# EAGLE library part TC1775 (library infineon-tricore)
TC1775 (AUDO1) 32-bit microcontroller for high demanding automotive and industrial applications (e.g. engine management, starter generator, 3-phase motor control or robotics) Source: http://www.infineon.com ..
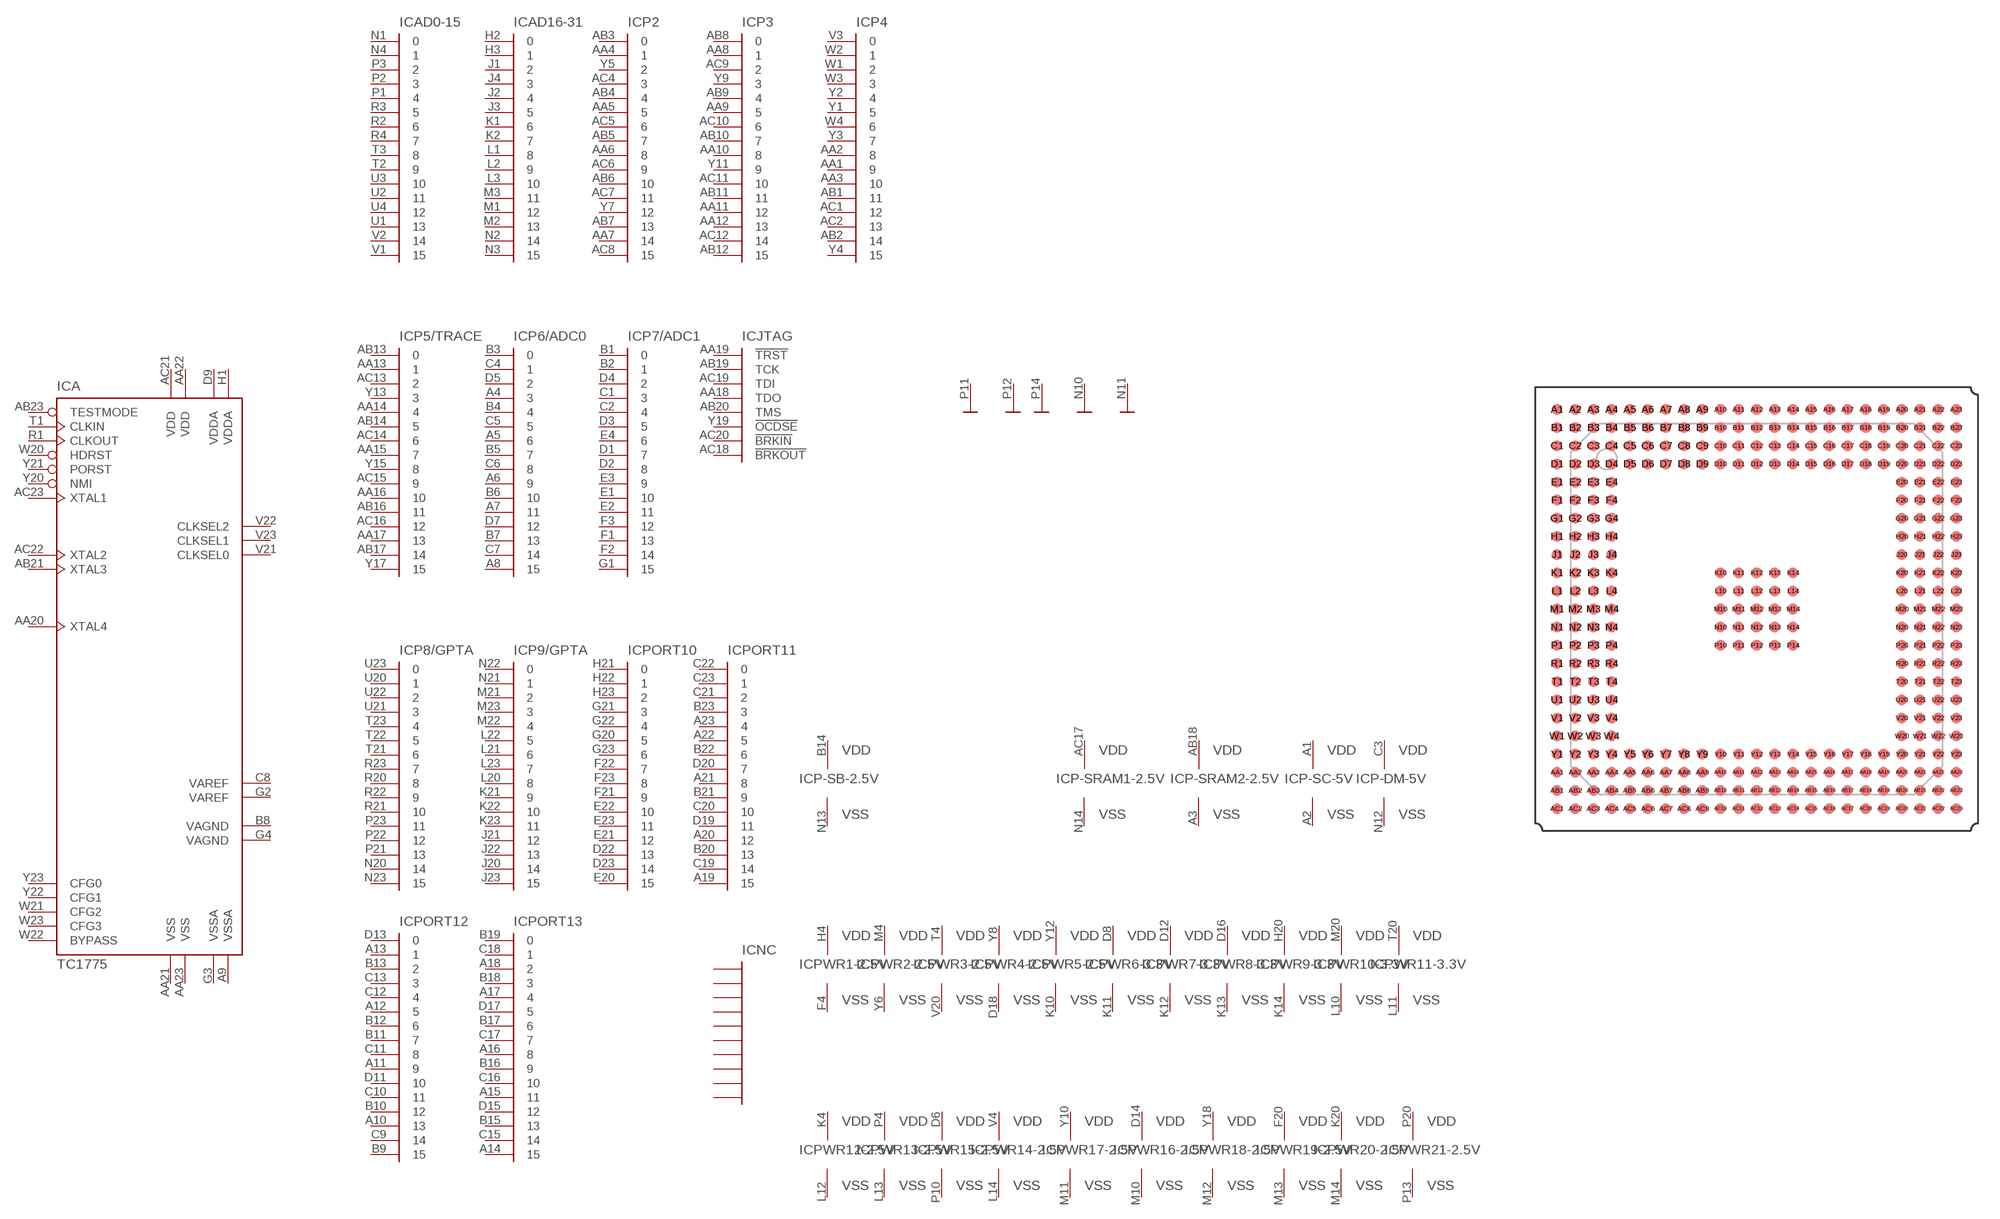
[diagram p1: symbol with the pads of P-BGA329; footprint P-BGA329]

Designator prefix IC; gates PORT12=PORT16 PORT13=PORT16 P8/GPTA=PORT16 P9/GPTA=PORT16 PORT10=PORT16 PORT11=PORT16 P5/TRACE=PORT16 P6/ADC0=PORT16 P7/ADC1=PORT16 AD0-15=PORT16 AD16-31=PORT16 P2=PORT16 P3=PORT16 P4=PORT16 NC=NC10 PWR1-2.5V=VSS_VDD PWR2-2.5V=VSS_VDD PWR3-2.5V=VSS_VDD PWR4-2.5V=VSS_VDD PWR5-2.5V=VSS_VDD PWR6-3.3V=VSS_VDD PWR7-3.3V=VSS_VDD PWR8-3.3V=VSS_VDD PWR9-3.3V=VSS_VDD PWR10-3.3V=VSS_VDD PWR11-3.3V=VSS_VDD PWR12-2.5V=VSS_VDD PWR13-2.5V=VSS_VDD PWR14-2.5V=VSS_VDD PWR15-2.5V=VSS_VDD P-SB-2.5V=VSS_VDD P-SRAM1-2.5V=VSS_VDD P-SRAM2-2.5V=VSS_VDD PWR16-2.5V=VSS_VDD PWR17-2.5V=VSS_VDD PWR18-2.5V=VSS_VDD PWR19-2.5V=VSS_VDD PWR20-2.5V=VSS_VDD PWR21-2.5V=VSS_VDD P-SC-5V=VSS_VDD P-DM-5V=VSS_VDD JTAG=JTAG-OCSD A=TC1775 PWR22=VSS PWR23=VSS PWR24=VSS PWR25=VSS PWR26=VSS

## TC1775 (OC_FARNELL: unknown; OC_NEWARK: unknown)  [P-BGA329]
A1  P-SC-5V:VDD  pwr
A2  P-SC-5V:VSS  pwr
A3  P-SRAM2-2.5V:VSS  pwr
A4  P6/ADC0:3  in
A5  P6/ADC0:6  in
A6  P6/ADC0:9  in
A7  P6/ADC0:11  in
A8  P6/ADC0:15  in
A9  A:VSSA  pwr
A10  PORT12:13  in
A11  PORT12:9  in
A12  PORT12:5  in
A13  PORT12:1  in
A14  PORT13:15  in
A15  PORT13:11  in
A16  PORT13:8  in
A17  PORT13:4  in
A18  PORT13:2  in
A19  PORT11:15  in
A20  PORT11:12  in
A21  PORT11:8  in
A22  PORT11:5  in
A23  PORT11:4  in
AA1  P4:9  in
AA2  P4:8  in
AA3  P4:10  in
AA4  P2:1  in
AA5  P2:5  in
AA6  P2:8  in
AA7  P2:14  in
AA8  P3:1  in
AA9  P3:5  in
AA10  P3:8  in
AA11  P3:12  in
AA12  P3:13  in
AA13  P5/TRACE:1  in
AA14  P5/TRACE:4  in
AA15  P5/TRACE:7  in
AA16  P5/TRACE:10  in
AA17  P5/TRACE:13  in
AA18  JTAG:TDO  out
AA19  JTAG:!TRST  in
AA20  A:XTAL4
AA21  A:VSS  pwr
AA22  A:VDD  pwr
AA23  A:VSS  pwr
AB1  P4:11  in
AB2  P4:14  in
AB3  P2:0  in
AB4  P2:4  in
AB5  P2:7  in
AB6  P2:10  in
AB7  P2:13  in
AB8  P3:0  in
AB9  P3:4  in
AB10  P3:7  in
AB11  P3:11  in
AB12  P3:15  in
AB13  P5/TRACE:0  in
AB14  P5/TRACE:5  in
AB15  NC:NC  nc
AB16  P5/TRACE:11  in
AB17  P5/TRACE:14  in
AB18  P-SRAM2-2.5V:VDD  pwr
AB19  JTAG:TCK  in
AB20  JTAG:TMS  in
AB21  A:XTAL3
AB22  NC:NC  nc
AB23  A:TESTMODE
AC1  P4:12  in
AC2  P4:13  in
AC3  NC:NC  nc
AC4  P2:3  in
AC5  P2:6  in
AC6  P2:9  in
AC7  P2:11  in
AC8  P2:15  in
AC9  P3:2  in
AC10  P3:6  in
AC11  P3:10  in
AC12  P3:14  in
AC13  P5/TRACE:2  in
AC14  P5/TRACE:6  in
AC15  P5/TRACE:9  in
AC16  P5/TRACE:12  in
AC17  P-SRAM1-2.5V:VDD  pwr
AC18  JTAG:!BRKOUT  out
AC19  JTAG:TDI  in
AC20  JTAG:!BRKIN  in
AC21  A:VDD  pwr
AC22  A:XTAL2
AC23  A:XTAL1
B1  P7/ADC1:0  in
B2  P7/ADC1:1  in
B3  P6/ADC0:0  in
B4  P6/ADC0:4  in
B5  P6/ADC0:7  in
B6  P6/ADC0:10  in
B7  P6/ADC0:13  in
B8  A:VAGND  pwr
B9  PORT12:15  in
B10  PORT12:12  in
B11  PORT12:7  in
B12  PORT12:6  in
B13  PORT12:2  in
B14  P-SB-2.5V:VDD  pwr
B15  PORT13:13  in
B16  PORT13:9  in
B17  PORT13:6  in
B18  PORT13:3  in
B19  PORT13:0  in
B20  PORT11:13  in
B21  PORT11:9  in
B22  PORT11:6  in
B23  PORT11:3  in
C1  P7/ADC1:3  in
C2  P7/ADC1:4  in
C3  P-DM-5V:VDD  pwr
C4  P6/ADC0:1  in
C5  P6/ADC0:5  in
C6  P6/ADC0:8  in
C7  P6/ADC0:14  in
C8  A:VAREF  pwr
C9  PORT12:14  in
C10  PORT12:11  in
C11  PORT12:8  in
C12  PORT12:4  in
C13  PORT12:3  in
C14  NC:NC  nc
C15  PORT13:14  in
C16  PORT13:10  in
C17  PORT13:7  in
C18  PORT13:1  in
C19  PORT11:14  in
C20  PORT11:10  in
C21  PORT11:2  in
C22  PORT11:0  in
C23  PORT11:1  in
D1  P7/ADC1:7  in
D2  P7/ADC1:8  in
D3  P7/ADC1:5  in
D4  P7/ADC1:2  in
D5  P6/ADC0:2  in
D6  PWR15-2.5V:VDD  pwr
D7  P6/ADC0:12  in
D8  PWR6-3.3V:VDD  pwr
D9  A:VDDA  pwr
D10  NC:NC  nc
D11  PORT12:10  in
D12  PWR7-3.3V:VDD  pwr
D13  PORT12:0  in
D14  PWR16-2.5V:VDD  pwr
D15  PORT13:12  in
D16  PWR8-3.3V:VDD  pwr
D17  PORT13:5  in
D18  PWR4-2.5V:VSS  pwr
D19  PORT11:11  in
D20  PORT11:7  in
D21  NC:NC  nc
D22  PORT10:13  in
D23  PORT10:14  in
E1  P7/ADC1:10  in
E2  P7/ADC1:11  in
E3  P7/ADC1:9  in
E4  P7/ADC1:6  in
E20  PORT10:15  in
E21  PORT10:12  in
E22  PORT10:10  in
E23  PORT10:11  in
F1  P7/ADC1:13  in
F2  P7/ADC1:14  in
F3  P7/ADC1:12  in
F4  PWR1-2.5V:VSS  pwr
F20  PWR19-2.5V:VDD  pwr
F21  PORT10:9  in
F22  PORT10:7  in
F23  PORT10:8  in
G1  P7/ADC1:15  in
G2  A:VAREF  pwr
G3  A:VSSA  pwr
G4  A:VAGND  pwr
G20  PORT10:5  in
G21  PORT10:3  in
G22  PORT10:4  in
G23  PORT10:6  in
H1  A:VDDA  pwr
H2  AD16-31:0  in
H3  AD16-31:1  in
H4  PWR1-2.5V:VDD  pwr
H20  PWR9-3.3V:VDD  pwr
H21  PORT10:0  in
H22  PORT10:1  in
H23  PORT10:2  in
J1  AD16-31:2  in
J2  AD16-31:4  in
J3  AD16-31:5  in
J4  AD16-31:3  in
J20  P9/GPTA:14  in
J21  P9/GPTA:12  in
J22  P9/GPTA:13  in
J23  P9/GPTA:15  in
K1  AD16-31:6  in
K2  AD16-31:7  in
K3  NC:NC  nc
K4  PWR12-2.5V:VDD  pwr
K10  PWR5-2.5V:VSS  pwr
K11  PWR6-3.3V:VSS  pwr
K12  PWR7-3.3V:VSS  pwr
K13  PWR8-3.3V:VSS  pwr
K14  PWR9-3.3V:VSS  pwr
K20  PWR20-2.5V:VDD  pwr
K21  P9/GPTA:9  in
K22  P9/GPTA:10  in
K23  P9/GPTA:11  in
L1  AD16-31:8  in
L2  AD16-31:9  in
L3  AD16-31:10  in
L4  NC:NC  nc
L10  PWR10-3.3V:VSS  pwr
L11  PWR11-3.3V:VSS  pwr
L12  PWR12-2.5V:VSS  pwr
L13  PWR13-2.5V:VSS  pwr
L14  PWR14-2.5V:VSS  pwr
L20  P9/GPTA:8  in
L21  P9/GPTA:6  in
L22  P9/GPTA:5  in
L23  P9/GPTA:7  in
M1  AD16-31:12  in
M2  AD16-31:13  in
M3  AD16-31:11  in
M4  PWR2-2.5V:VDD  pwr
M10  PWR16-2.5V:VSS  pwr
M11  PWR17-2.5V:VSS  pwr
M12  PWR18-2.5V:VSS  pwr
M13  PWR19-2.5V:VSS  pwr
M14  PWR20-2.5V:VSS  pwr
M20  PWR10-3.3V:VDD  pwr
M21  P9/GPTA:2  in
M22  P9/GPTA:4  in
M23  P9/GPTA:3  in
N1  AD0-15:0  in
N2  AD16-31:14  in
N3  AD16-31:15  in
N4  AD0-15:1  in
N10  PWR25:VSS  pwr
N11  PWR26:VSS  pwr
N12  P-DM-5V:VSS  pwr
N13  P-SB-2.5V:VSS  pwr
N14  P-SRAM1-2.5V:VSS  pwr
N20  P8/GPTA:14  in
N21  P9/GPTA:1  in
N22  P9/GPTA:0  in
N23  P8/GPTA:15  in
P1  AD0-15:4  in
P2  AD0-15:3  in
P3  AD0-15:2  in
P4  PWR13-2.5V:VDD  pwr
P10  PWR15-2.5V:VSS  pwr
P11  PWR22:VSS  pwr
P12  PWR23:VSS  pwr
P13  PWR21-2.5V:VSS  pwr
P14  PWR24:VSS  pwr
P20  PWR21-2.5V:VDD  pwr
P21  P8/GPTA:13  in
P22  P8/GPTA:12  in
P23  P8/GPTA:11  in
R1  A:CLKOUT  out
R2  AD0-15:6  in
R3  AD0-15:5  in
R4  AD0-15:7  in
R20  P8/GPTA:8  in
R21  P8/GPTA:10  in
R22  P8/GPTA:9  in
R23  P8/GPTA:7  in
T1  A:CLKIN  in
T2  AD0-15:9  in
T3  AD0-15:8  in
T4  PWR3-2.5V:VDD  pwr
T20  PWR11-3.3V:VDD  pwr
T21  P8/GPTA:6  in
T22  P8/GPTA:5  in
T23  P8/GPTA:4  in
U1  AD0-15:13  in
U2  AD0-15:11  in
U3  AD0-15:10  in
U4  AD0-15:12  in
U20  P8/GPTA:1  in
U21  P8/GPTA:3  in
U22  P8/GPTA:2  in
U23  P8/GPTA:0  in
V1  AD0-15:15  in
V2  AD0-15:14  in
V3  P4:0  in
V4  PWR14-2.5V:VDD  pwr
V20  PWR3-2.5V:VSS  pwr
V21  A:CLKSEL0  in
V22  A:CLKSEL2  in
V23  A:CLKSEL1  in
W1  P4:2  in
W2  P4:1  in
W3  P4:3  in
W4  P4:6  in
W20  A:HDRST
W21  A:CFG2  in
W22  A:BYPASS  in
W23  A:CFG3  in
Y1  P4:5  in
Y2  P4:4  in
Y3  P4:7  in
Y4  P4:15  in
Y5  P2:2  in
Y6  PWR2-2.5V:VSS  pwr
Y7  P2:12  in
Y8  PWR4-2.5V:VDD  pwr
Y9  P3:3  in
Y10  PWR17-2.5V:VDD  pwr
Y11  P3:9  in
Y12  PWR5-2.5V:VDD  pwr
Y13  P5/TRACE:3  in
Y14  NC:NC  nc
Y15  P5/TRACE:8  in
Y16  NC:NC  nc
Y17  P5/TRACE:15  in
Y18  PWR18-2.5V:VDD  pwr
Y19  JTAG:!OCDSE  in
Y20  A:NMI  in
Y21  A:PORST  in
Y22  A:CFG1  in
Y23  A:CFG0  in

## Footprint P-BGA329 (pad centres in mm)
P-BGA-329 Plastic Ball Grid Array Package Source: http://www.infineon.com
smd 0.76 x 0.76: A1 -13.97,13.97; A2 -12.7,13.97; A3 -11.43,13.97; A4 -10.16,13.97; A5 -8.89,13.97; A6 -7.62,13.97; A7 -6.35,13.97; A8 -5.08,13.97; A9 -3.81,13.97; A10 -2.54,13.97; A11 -1.27,13.97; A12 0,13.97; A13 1.27,13.97; A14 2.54,13.97; A15 3.81,13.97; A16 5.08,13.97; A17 6.35,13.97; A18 7.62,13.97; A19 8.89,13.97; A20 10.16,13.97; A21 11.43,13.97; A22 12.7,13.97; A23 13.97,13.97; AA1 -13.97,-11.43; AA2 -12.7,-11.43; AA3 -11.43,-11.43; AA4 -10.16,-11.43; AA5 -8.89,-11.43; AA6 -7.62,-11.43; AA7 -6.35,-11.43; AA8 -5.08,-11.43; AA9 -3.81,-11.43; AA10 -2.54,-11.43; AA11 -1.27,-11.43; AA12 0,-11.43; AA13 1.27,-11.43; AA14 2.54,-11.43; AA15 3.81,-11.43; AA16 5.08,-11.43; AA17 6.35,-11.43; AA18 7.62,-11.43; AA19 8.89,-11.43; AA20 10.16,-11.43; AA21 11.43,-11.43; AA22 12.7,-11.43; AA23 13.97,-11.43; AB1 -13.97,-12.7; AB2 -12.7,-12.7; AB3 -11.43,-12.7; AB4 -10.16,-12.7; AB5 -8.89,-12.7; AB6 -7.62,-12.7; AB7 -6.35,-12.7; AB8 -5.08,-12.7; AB9 -3.81,-12.7; AB10 -2.54,-12.7; AB11 -1.27,-12.7; AB12 0,-12.7; AB13 1.27,-12.7; AB14 2.54,-12.7; AB15 3.81,-12.7; AB16 5.08,-12.7; AB17 6.35,-12.7; AB18 7.62,-12.7; AB19 8.89,-12.7; AB20 10.16,-12.7; AB21 11.43,-12.7; AB22 12.7,-12.7; AB23 13.97,-12.7; AC1 -13.97,-13.97; AC2 -12.7,-13.97; AC3 -11.43,-13.97; AC4 -10.16,-13.97; AC5 -8.89,-13.97; AC6 -7.62,-13.97; AC7 -6.35,-13.97; AC8 -5.08,-13.97; AC9 -3.81,-13.97; AC10 -2.54,-13.97; AC11 -1.27,-13.97; AC12 0,-13.97; AC13 1.27,-13.97; AC14 2.54,-13.97; AC15 3.81,-13.97; AC16 5.08,-13.97; AC17 6.35,-13.97; AC18 7.62,-13.97; AC19 8.89,-13.97; AC20 10.16,-13.97; AC21 11.43,-13.97; AC22 12.7,-13.97; AC23 13.97,-13.97; B1 -13.97,12.7; B2 -12.7,12.7; B3 -11.43,12.7; B4 -10.16,12.7; B5 -8.89,12.7; B6 -7.62,12.7; B7 -6.35,12.7; B8 -5.08,12.7; B9 -3.81,12.7; B10 -2.54,12.7; B11 -1.27,12.7; B12 0,12.7; B13 1.27,12.7; B14 2.54,12.7; B15 3.81,12.7; B16 5.08,12.7; B17 6.35,12.7; B18 7.62,12.7; B19 8.89,12.7; B20 10.16,12.7; B21 11.43,12.7; B22 12.7,12.7; B23 13.97,12.7; C1 -13.97,11.43; C2 -12.7,11.43; C3 -11.43,11.43; C4 -10.16,11.43; C5 -8.89,11.43; C6 -7.62,11.43; C7 -6.35,11.43; C8 -5.08,11.43; C9 -3.81,11.43; C10 -2.54,11.43; C11 -1.27,11.43; C12 0,11.43; C13 1.27,11.43; C14 2.54,11.43; C15 3.81,11.43; C16 5.08,11.43; C17 6.35,11.43; C18 7.62,11.43; C19 8.89,11.43; C20 10.16,11.43; C21 11.43,11.43; C22 12.7,11.43; C23 13.97,11.43; D1 -13.97,10.16; D2 -12.7,10.16; D3 -11.43,10.16; D4 -10.16,10.16; D5 -8.89,10.16; D6 -7.62,10.16; D7 -6.35,10.16; D8 -5.08,10.16; D9 -3.81,10.16; D10 -2.54,10.16; D11 -1.27,10.16; D12 0,10.16; D13 1.27,10.16; D14 2.54,10.16; D15 3.81,10.16; D16 5.08,10.16; D17 6.35,10.16; D18 7.62,10.16; D19 8.89,10.16; D20 10.16,10.16; D21 11.43,10.16; D22 12.7,10.16; D23 13.97,10.16; E1 -13.97,8.89; E2 -12.7,8.89; E3 -11.43,8.89; E4 -10.16,8.89; E20 10.16,8.89; E21 11.43,8.89; E22 12.7,8.89; E23 13.97,8.89; F1 -13.97,7.62; F2 -12.7,7.62; F3 -11.43,7.62; F4 -10.16,7.62; F20 10.16,7.62; F21 11.43,7.62; F22 12.7,7.62; F23 13.97,7.62; G1 -13.97,6.35; G2 -12.7,6.35; G3 -11.43,6.35; G4 -10.16,6.35; G20 10.16,6.35; G21 11.43,6.35; G22 12.7,6.35; G23 13.97,6.35; H1 -13.97,5.08; H2 -12.7,5.08; H3 -11.43,5.08; H4 -10.16,5.08; H20 10.16,5.08; H21 11.43,5.08; H22 12.7,5.08; H23 13.97,5.08; J1 -13.97,3.81; J2 -12.7,3.81; J3 -11.43,3.81; J4 -10.16,3.81; J20 10.16,3.81; J21 11.43,3.81; J22 12.7,3.81; J23 13.97,3.81; K1 -13.97,2.54; K2 -12.7,2.54; K3 -11.43,2.54; K4 -10.16,2.54; K10 -2.54,2.54; K11 -1.27,2.54; K12 0,2.54; K13 1.27,2.54; K14 2.54,2.54; K20 10.16,2.54; K21 11.43,2.54; K22 12.7,2.54; K23 13.97,2.54; L1 -13.97,1.27; L2 -12.7,1.27; L3 -11.43,1.27; L4 -10.16,1.27; L10 -2.54,1.27; L11 -1.27,1.27; L12 0,1.27; L13 1.27,1.27; L14 2.54,1.27; L20 10.16,1.27; L21 11.43,1.27; L22 12.7,1.27; L23 13.97,1.27; M1 -13.97,0; M2 -12.7,0; M3 -11.43,0; M4 -10.16,0; M10 -2.54,0; M11 -1.27,0; M12 0,0; M13 1.27,0; M14 2.54,0; M20 10.16,0; M21 11.43,0; M22 12.7,0; M23 13.97,0; N1 -13.97,-1.27; N2 -12.7,-1.27; N3 -11.43,-1.27; N4 -10.16,-1.27; N10 -2.54,-1.27; N11 -1.27,-1.27; N12 0,-1.27; N13 1.27,-1.27; N14 2.54,-1.27; N20 10.16,-1.27; N21 11.43,-1.27; N22 12.7,-1.27; N23 13.97,-1.27; P1 -13.97,-2.54; P2 -12.7,-2.54; P3 -11.43,-2.54; P4 -10.16,-2.54; P10 -2.54,-2.54; P11 -1.27,-2.54; P12 0,-2.54; P13 1.27,-2.54; P14 2.54,-2.54; P20 10.16,-2.54; P21 11.43,-2.54; P22 12.7,-2.54; P23 13.97,-2.54; R1 -13.97,-3.81; R2 -12.7,-3.81; R3 -11.43,-3.81; R4 -10.16,-3.81; R20 10.16,-3.81; R21 11.43,-3.81; R22 12.7,-3.81; R23 13.97,-3.81; T1 -13.97,-5.08; T2 -12.7,-5.08; T3 -11.43,-5.08; T4 -10.16,-5.08; T20 10.16,-5.08; T21 11.43,-5.08; T22 12.7,-5.08; T23 13.97,-5.08; U1 -13.97,-6.35; U2 -12.7,-6.35; U3 -11.43,-6.35; U4 -10.16,-6.35; U20 10.16,-6.35; U21 11.43,-6.35; U22 12.7,-6.35; U23 13.97,-6.35; V1 -13.97,-7.62; V2 -12.7,-7.62; V3 -11.43,-7.62; V4 -10.16,-7.62; V20 10.16,-7.62; V21 11.43,-7.62; V22 12.7,-7.62; V23 13.97,-7.62; W1 -13.97,-8.89; W2 -12.7,-8.89; W3 -11.43,-8.89; W4 -10.16,-8.89; W20 10.16,-8.89; W21 11.43,-8.89; W22 12.7,-8.89; W23 13.97,-8.89; Y1 -13.97,-10.16; Y2 -12.7,-10.16; Y3 -11.43,-10.16; Y4 -10.16,-10.16; Y5 -8.89,-10.16; Y6 -7.62,-10.16; Y7 -6.35,-10.16; Y8 -5.08,-10.16; Y9 -3.81,-10.16; Y10 -2.54,-10.16; Y11 -1.27,-10.16; Y12 0,-10.16; Y13 1.27,-10.16; Y14 2.54,-10.16; Y15 3.81,-10.16; Y16 5.08,-10.16; Y17 6.35,-10.16; Y18 7.62,-10.16; Y19 8.89,-10.16; Y20 10.16,-10.16; Y21 11.43,-10.16; Y22 12.7,-10.16; Y23 13.97,-10.16